# EAGLE library part BQ25601RTWR (library charger)
This might or might not work or might or might not be the correct part
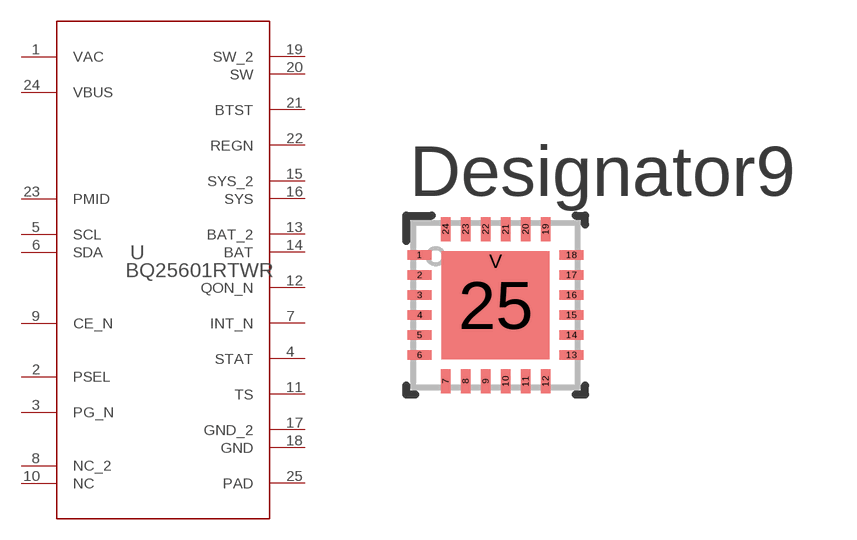
[diagram p0: symbol with the pads of RTW0024H; footprint RTW0024H]

Designator prefix U

## BQ25601RTWR (MANUFACTURER: Texas Instruments; PARTNUMBER: BQ25601RTWR; REFDES: RefDes; TYPE: TYPE; VALUE: Value)  [RTW0024H]
1  VAC  pwr
2  PSEL  pas
3  PG_N  pas
4  STAT  oc
5  SCL  in
6  SDA
7  INT_N  oc
8  NC_2  pas
9  CE_N  in
10  NC  pas
11  TS  in
12  QON_N  in
13  BAT_2  pwr
14  BAT  pwr
15  SYS_2  pwr
16  SYS  pwr
17  GND_2  pwr
18  GND  pwr
19  SW_2  pwr
20  SW  pwr
21  BTST  pwr
22  REGN  pwr
23  PMID  out
24  VBUS  pas
25  PAD  pwr

## Footprint RTW0024H (pad centres in mm)
smd 0.6 x 0.24: 1 -1.9,1.25; 2 -1.9,0.75; 3 -1.9,0.25; 4 -1.9,-0.25; 5 -1.9,-0.75; 6 -1.9,-1.25; 13 1.9,-1.25; 14 1.9,-0.75; 15 1.9,-0.25; 16 1.9,0.25; 17 1.9,0.75; 18 1.9,1.25
smd 0.24 x 0.6: 7 -1.25,-1.9; 8 -0.75,-1.9; 9 -0.25,-1.9; 10 0.25,-1.9; 11 0.75,-1.9; 12 1.25,-1.9; 19 1.25,1.9; 20 0.75,1.9; 21 0.25,1.9; 22 -0.25,1.9; 23 -0.75,1.9; 24 -1.25,1.9
smd 2.7 x 2.7: 25 0,0
smd 0.5 x 0.5: V 0,1.1